# EAGLE library part FDC2214QRGHRQ1 (library FDC2214QRGHRQ1)
4-channel, Noise-immune, AEC-Q100 qualified, 28-bit Capacitive Sensing Solution Source: Datasheet <http://www.ti.com/lit/gpn/fdc2214-q1>
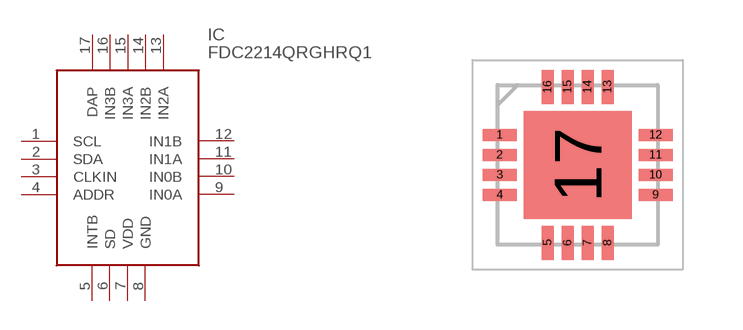
[diagram p0: symbol with the pads of QFN50P400X400X80-17N; footprint QFN50P400X400X80-17N]

Designator prefix IC

## FDC2214QRGHRQ1 (Arrow_Part_Number: FDC2214QRGHRQ1; Arrow_Price-Stock: https://www.arrow.com/en/products/fdc2214qrghrq1/texas-instruments?region=nac; Description: 4-channel, Noise-immune, AEC-Q100 qualified, 28-bit Capacitive Sensing Solution; Height: 0.8mm; Manufacturer_Name: Texas Instruments; Manufacturer_Part_Number: FDC2214QRGHRQ1; Mouser_Part_Number: 595-FDC2214QRGHRQ1; Mouser_Price-Stock: https://www.mouser.co.uk/ProductDetail/Texas-Instruments/FDC2214QRGHRQ1?qs=zEmsApcVOkXnIqI0octY2Q%3D%3D)  [QFN50P400X400X80-17N]
1  SCL
2  SDA
3  CLKIN
4  ADDR
5  INTB
6  SD
7  VDD
8  GND
9  IN0A
10  IN0B
11  IN1A
12  IN1B
13  IN2A
14  IN2B
15  IN3A
16  IN3B
17  DAP

## Footprint QFN50P400X400X80-17N (pad centres in mm)
RGH0016A 2021
smd 0.85 x 0.3: 1 -1.95,0.75; 2 -1.95,0.25; 3 -1.95,-0.25; 4 -1.95,-0.75; 9 1.95,-0.75; 10 1.95,-0.25; 11 1.95,0.25; 12 1.95,0.75
smd 0.3 x 0.85: 5 -0.75,-1.95; 6 -0.25,-1.95; 7 0.25,-1.95; 8 0.75,-1.95; 13 0.75,1.95; 14 0.25,1.95; 15 -0.25,1.95; 16 -0.75,1.95
smd 2.7 x 2.7: 17 0,0